# Altium schematic symbol library C_TANT_D(7343).SchLib: 1 symbol
Pins are listed as number, name and electrical type; pins without a type are passive.

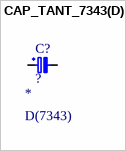
[diagram p0: symbol CAP_TANT_7343(D)]

## CAP_TANT_7343(D)
designator C?, comment ?  Package: D(7343)
CASE-D-7343 Tantalum Capacitors ROHS; Manufacturer: *; Manufacturer Part: *; Value: ?; LCSC: *; Voltage: *
footprint C7343(D)
pins: 1, 2